# Altium schematic symbol library TC2030-IDC.SchLib: 1 symbol
Pins are listed as number, name and electrical type; pins without a type are passive.

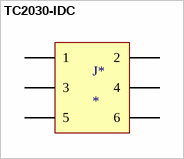
[diagram p0: symbol TC2030-IDC]

## TC2030-IDC
designator J*
6 point pin free header
footprint TC2030-IDC-NL (6-Pin, no leg connector)
pins: 1, 2, 3, 4, 5, 6